# Altium footprint library LED.PcbLib: 41 footprints (part 1 of 3)
Each footprint in its own frame and in the unit in brackets; x right, y up, seen from the top. Pads: shape width x height; smd on the part's side, far side on the other; paste and mask are expansions set on the pad; w line width, h text height; cw(c..) or ccw(c..) is an arc to the next point about the centre after c.
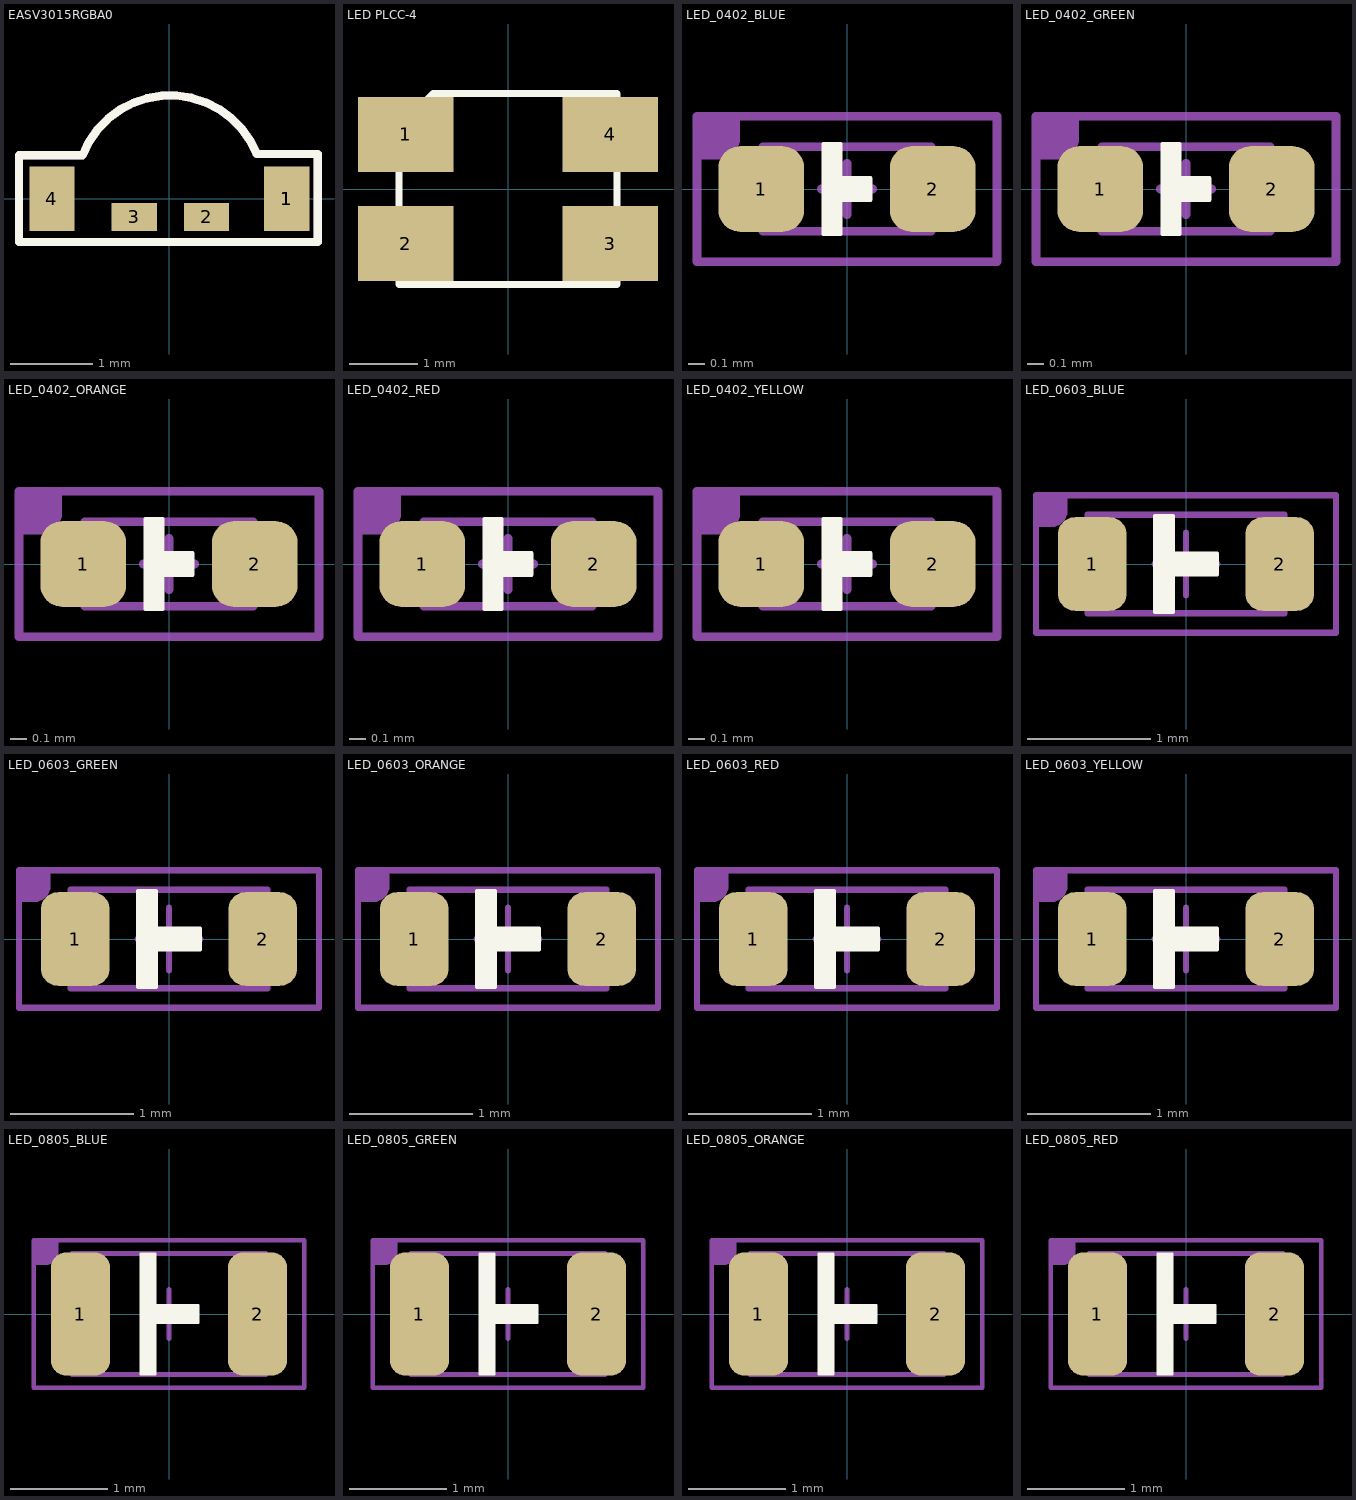
[diagram p0: the footprints below, top view; thin cyan lines are the x and y axes]

## EASV3015RGBA0 [mm]
pads (5):
  rect 0.55x0.78 smd: 1(1.425,0) 1(1.425,0) 4(-1.425,0)
  rect 0.55x0.34 smd: 2(0.45,-0.22) 3(-0.425,-0.22)
Top Overlay:
  lines w0.1: -1.825,-0.525 1.8,-0.525 1.8,0.544 1.059,0.544 ccw(c0.006,0.118) -1.054,0.527 -1.825,0.527 -1.825,-0.525
Mechanical 1:
  lines w0.1: -1.825,-0.525 1.8,-0.525 1.8,0.544 1.059,0.544 ccw(c0.006,0.118) -1.054,0.527 -1.825,0.527 -1.825,-0.525
  text ".Designator" at -1.5,-0.4 h0.7
3D body "EASV3015RGBA0.STEP": height 1, standoff 0, extent -1.5,-0.4 1.5,1.1

## LED PLCC-4 [mm]
pads (4):
  rect 1.4x1.1 smd: 1(-1.5,0.8) 2(-1.5,-0.8) 3(1.5,-0.8) 4(1.5,0.8)
Top Overlay:
  lines w0.1: -1.6,-1.4 -1.6,0.901 -1.101,1.4 -0.901,1.4 1.6,1.4 1.6,-1.4 -1.6,-1.4
3D body "Led_PLCC4-1.STEP": height 1.95, standoff 0, extent -1.752,-1.4 1.748,1.4

## LED_0402_BLUE [mil]
height 31.5
pads (2):
  rrect50% 20x20 smd: 1(-20,0) 2(20,0)
Top Overlay:
  region: -5.5,10.5 -1.5,10.5 -1.5,2.5 5.5,2.5 5.5,-2.5 -1.5,-2.5 -1.5,-10.5 -5.5,-10.5
  lines w1: -5.5,-10.5 -1.5,-10.5 -1.5,-2.5 5.5,-2.5 5.5,2.5 -1.5,2.5 -1.5,10.5 -5.5,10.5 -5.5,-10.5
Mechanical 13:
  lines w2: -6,0 6,0 ; 0,-6 0,6 ; -19.69,-9.84 -19.69,9.84 19.68,9.84 19.68,-9.84 -19.69,-9.84
Mechanical 14:
  region: -35,17 -25,17 -25,12 -25,11.01 -25.76,9.17 -27.17,7.76 -29.01,7 -30,7 -35,7
  lines w2: -35,-17 35,-17 35,17 -35,17 -35,-17
  text ".Designator" at -15,-10 h40
3D body "User Library-led_0402LED0402 blue_.STEP": height 17.72, standoff 0, extent -19.88,-9.84 19.88,9.85

## LED_0402_GREEN [mil]
height 31.5
pads (2):
  rrect50% 20x20 smd: 1(-20,0) 2(20,0)
Top Overlay:
  region: -5.5,10.5 -1.5,10.5 -1.5,2.5 5.5,2.5 5.5,-2.5 -1.5,-2.5 -1.5,-10.5 -5.5,-10.5
  lines w1: -5.5,-10.5 -1.5,-10.5 -1.5,-2.5 5.5,-2.5 5.5,2.5 -1.5,2.5 -1.5,10.5 -5.5,10.5 -5.5,-10.5
Mechanical 13:
  lines w2: -6,0 6,0 ; 0,-6 0,6 ; -19.69,-9.84 -19.69,9.84 19.68,9.84 19.68,-9.84 -19.69,-9.84
Mechanical 14:
  region: -35,17 -25,17 -25,12 -25,11.01 -25.76,9.17 -27.17,7.76 -29.01,7 -30,7 -35,7
  lines w2: -35,-17 -35,17 35,17 35,-17 -35,-17
  text ".Designator" at -15,-10 h40
3D body "User Library-led_0402LED0402 green_.STEP": height 17.72, standoff 0, extent -19.88,-9.84 19.88,9.85

## LED_0402_ORANGE [mil]
height 31.5
pads (2):
  rrect50% 20x20 smd: 1(-20,0) 2(20,0)
Top Overlay:
  region: -5.5,10.5 -1.5,10.5 -1.5,2.5 5.5,2.5 5.5,-2.5 -1.5,-2.5 -1.5,-10.5 -5.5,-10.5
  lines w1: -5.5,-10.5 -5.5,10.5 -1.5,10.5 -1.5,2.5 5.5,2.5 5.5,-2.5 -1.5,-2.5 -1.5,-10.5 -5.5,-10.5
Mechanical 13:
  lines w2: -6,0 6,0 ; 0,-6 0,6 ; -19.69,-9.84 19.68,-9.84 19.68,9.84 -19.69,9.84 -19.69,-9.84
Mechanical 14:
  region: -35,17 -25,17 -25,12 -25,11.01 -25.76,9.17 -27.17,7.76 -29.01,7 -30,7 -35,7
  lines w2: -35,-17 35,-17 35,17 -35,17 -35,-17
  text ".Designator" at -15,-10 h40
3D body "User Library-led_0402LED0402 orange_.STEP": height 17.72, standoff 0, extent -19.88,-9.84 19.88,9.85

## LED_0402_RED [mil]
height 31.5
pads (2):
  rrect50% 20x20 smd: 1(-20,0) 2(20,0)
Top Overlay:
  region: -5.5,10.5 -1.5,10.5 -1.5,2.5 5.5,2.5 5.5,-2.5 -1.5,-2.5 -1.5,-10.5 -5.5,-10.5
  lines w1: -5.5,-10.5 -1.5,-10.5 -1.5,-2.5 5.5,-2.5 5.5,2.5 -1.5,2.5 -1.5,10.5 -5.5,10.5 -5.5,-10.5
Mechanical 13:
  lines w2: -6,0 6,0 ; 0,-6 0,6 ; -19.69,-9.84 -19.69,9.84 19.68,9.84 19.68,-9.84 -19.69,-9.84
Mechanical 14:
  region: -35,17 -25,17 -25,12 -25,11.01 -25.76,9.17 -27.17,7.76 -29.01,7 -30,7 -35,7
  lines w2: -35,-17 -35,17 35,17 35,-17 -35,-17
  text ".Designator" at -15,-10 h40
3D body "User Library-led_0402LED0402 red_.STEP": height 17.72, standoff 0, extent -19.88,-9.84 19.89,9.85

## LED_0402_YELLOW [mil]
height 31.5
pads (2):
  rrect50% 20x20 smd: 1(-20,0) 2(20,0)
Top Overlay:
  region: -5.5,10.5 -1.5,10.5 -1.5,2.5 5.5,2.5 5.5,-2.5 -1.5,-2.5 -1.5,-10.5 -5.5,-10.5
  lines w1: -5.5,-10.5 -1.5,-10.5 -1.5,-2.5 5.5,-2.5 5.5,2.5 -1.5,2.5 -1.5,10.5 -5.5,10.5 -5.5,-10.5
Mechanical 13:
  lines w2: -6,0 6,0 ; 0,-6 0,6 ; -19.69,-9.84 -19.69,9.84 19.68,9.84 19.68,-9.84 -19.69,-9.84
Mechanical 14:
  region: -35,17 -25,17 -25,12 -25,11.01 -25.76,9.17 -27.17,7.76 -29.01,7 -30,7 -35,7
  lines w2: -35,-17 35,-17 35,17 -35,17 -35,-17
  text ".Designator" at -15,-10 h40
3D body "User Library-led_0402LED0402 yellow_.STEP": height 17.72, standoff 0, extent -19.88,-9.84 19.89,9.85

## LED_0603_BLUE [mil]
height 31.5
pads (2):
  rrect50% 22x30 smd: 1(-30,0) 2(30,0)
Top Overlay:
  region: -10,15.5 -4,15.5 -4,3.5 10,3.5 10,-3.5 -4,-3.5 -4,-15.5 -10,-15.5
  lines w1: -10,-15.5 -10,15.5 -4,15.5 -4,3.5 10,3.5 10,-3.5 -4,-3.5 -4,-15.5 -10,-15.5
Mechanical 13:
  lines w2: -10,0 10,0 ; 0,-10 0,10 ; -31.5,-15.75 -31.5,15.75 31.5,15.75 31.5,-15.75 -31.5,-15.75
Mechanical 14:
  region: -48,22 -38,22 -38,17 -38,16.01 -38.76,14.17 -40.17,12.76 -42.01,12 -43,12 -48,12
  lines w2: -48,-22 48,-22 48,22 -48,22 -48,-22
  text ".Designator" at -25,-15 h60
3D body "User Library-led_0603LED0603 blue.STEP": height 23.62, standoff 0, extent -31.89,-15.74 31.89,15.75

## LED_0603_GREEN [mil]
height 31.5
pads (2):
  rrect50% 22x30 smd: 1(-30,0) 2(30,0)
Top Overlay:
  region: -10,15.5 -4,15.5 -4,3.5 10,3.5 10,-3.5 -4,-3.5 -4,-15.5 -10,-15.5
  lines w1: -10,-15.5 -10,15.5 -4,15.5 -4,3.5 10,3.5 10,-3.5 -4,-3.5 -4,-15.5 -10,-15.5
Mechanical 13:
  lines w2: -10,0 10,0 ; 0,-10 0,10 ; -31.5,-15.75 -31.5,15.75 31.5,15.75 31.5,-15.75 -31.5,-15.75
Mechanical 14:
  region: -48,22 -38,22 -38,17 -38,16.01 -38.76,14.17 -40.17,12.76 -42.01,12 -43,12 -48,12
  lines w2: -48,-22 48,-22 48,22 -48,22 -48,-22
  text ".Designator" at -25,-15 h60
3D body "User Library-led_0603LED0603 green.STEP": height 23.62, standoff 0, extent -31.89,-15.74 31.89,15.75

## LED_0603_ORANGE [mil]
height 31.5
pads (2):
  rrect50% 22x30 smd: 1(-30,0) 2(30,0)
Top Overlay:
  region: -10,15.5 -4,15.5 -4,3.5 10,3.5 10,-3.5 -4,-3.5 -4,-15.5 -10,-15.5
  lines w1: -10,-15.5 -10,15.5 -4,15.5 -4,3.5 10,3.5 10,-3.5 -4,-3.5 -4,-15.5 -10,-15.5
Mechanical 13:
  lines w2: -10,0 10,0 ; 0,-10 0,10 ; -31.5,-15.75 31.5,-15.75 31.5,15.75 -31.5,15.75 -31.5,-15.75
Mechanical 14:
  region: -48,22 -38,22 -38,17 -38,16.01 -38.76,14.17 -40.17,12.76 -42.01,12 -43,12 -48,12
  lines w2: -48,-22 -48,22 48,22 48,-22 -48,-22
  text ".Designator" at -25,-15 h60
3D body "User Library-led_0603LED0603 orange_.STEP": height 23.62, standoff 0, extent -31.89,-15.74 31.89,15.75

## LED_0603_RED [mil]
height 31.5
pads (2):
  rrect50% 22x30 smd: 1(-30,0) 2(30,0)
Top Overlay:
  region: -10,15.5 -4,15.5 -4,3.5 10,3.5 10,-3.5 -4,-3.5 -4,-15.5 -10,-15.5
  lines w1: -10,-15.5 -4,-15.5 -4,-3.5 10,-3.5 10,3.5 -4,3.5 -4,15.5 -10,15.5 -10,-15.5
Mechanical 13:
  lines w2: -10,0 10,0 ; 0,-10 0,10 ; -31.5,-15.75 -31.5,15.75 31.5,15.75 31.5,-15.75 -31.5,-15.75
Mechanical 14:
  region: -48,22 -38,22 -38,17 -38,16.01 -38.76,14.17 -40.17,12.76 -42.01,12 -43,12 -48,12
  lines w2: -48,-22 48,-22 48,22 -48,22 -48,-22
  text ".Designator" at -25,-15 h60
3D body "User Library-led_0603LED0603 red.STEP": height 23.62, standoff 0, extent -31.89,-15.74 31.89,15.75

## LED_0603_YELLOW [mil]
height 31.5
pads (2):
  rrect50% 22x30 smd: 1(-30,0) 2(30,0)
Top Overlay:
  region: -10,15.5 -4,15.5 -4,3.5 10,3.5 10,-3.5 -4,-3.5 -4,-15.5 -10,-15.5
  lines w1: -10,-15.5 -4,-15.5 -4,-3.5 10,-3.5 10,3.5 -4,3.5 -4,15.5 -10,15.5 -10,-15.5
Mechanical 13:
  lines w2: -10,0 10,0 ; 0,-10 0,10 ; -31.5,-15.75 31.5,-15.75 31.5,15.75 -31.5,15.75 -31.5,-15.75
Mechanical 14:
  region: -48,22 -38,22 -38,17 -38,16.01 -38.76,14.17 -40.17,12.76 -42.01,12 -43,12 -48,12
  lines w2: -48,-22 48,-22 48,22 -48,22 -48,-22
  text ".Designator" at -25,-15 h60
3D body "User Library-led_0603LED0603 yellow_.STEP": height 23.62, standoff 0, extent -31.89,-15.74 31.89,15.75

## LED_0805_BLUE [mil]
height 47.24
pads (2):
  rrect50% 24x50 smd: 1(-36,0) 2(36,0)
Top Overlay:
  region: -11.5,24.5 -5.5,24.5 -5.5,3.5 12,3.5 12,-3.5 -5.5,-3.5 -5.5,-24.5 -11.5,-24.5
  lines w1: -11.5,-24.5 -11.5,24.5 -5.5,24.5 -5.5,3.5 12,3.5 12,-3.5 -5.5,-3.5 -5.5,-24.5 -11.5,-24.5
Mechanical 13:
  lines w2: -10,0 10,0 ; 0,-10 0,10 ; -39.37,-24.61 39.37,-24.61 39.37,24.61 -39.37,24.61 -39.37,-24.61
Mechanical 14:
  region: -55,30 -45,30 -45,25 -45,24.01 -45.76,22.17 -47.17,20.76 -49.01,20 -50,20 -55,20
  lines w2: -55,-30 -55,30 55,30 55,-30 -55,-30
  text ".Designator" at -31,-20 h80
3D body "User Library-led_0805LED0805_blue.STEP": height 43.31, standoff 0, extent -39.76,-24.6 39.77,24.61

## LED_0805_GREEN [mil]
height 47.24
pads (2):
  rrect50% 24x50 smd: 1(-36,0) 2(36,0)
Top Overlay:
  region: -11.5,24.5 -5.5,24.5 -5.5,3.5 12,3.5 12,-3.5 -5.5,-3.5 -5.5,-24.5 -11.5,-24.5
  lines w1: -11.5,-24.5 -5.5,-24.5 -5.5,-3.5 12,-3.5 12,3.5 -5.5,3.5 -5.5,24.5 -11.5,24.5 -11.5,-24.5
Mechanical 13:
  lines w2: -10,0 10,0 ; 0,-10 0,10 ; -39.37,-24.61 -39.37,24.61 39.37,24.61 39.37,-24.61 -39.37,-24.61
Mechanical 14:
  region: -55,30 -45,30 -45,25 -45,24.01 -45.76,22.17 -47.17,20.76 -49.01,20 -50,20 -55,20
  lines w2: -55,-30 55,-30 55,30 -55,30 -55,-30
  text ".Designator" at -31,-20 h80
3D body "User Library-led_0805LED0805_green.STEP": height 43.31, standoff 0, extent -39.76,-24.6 39.77,24.61

## LED_0805_ORANGE [mil]
height 47.24
pads (2):
  rrect50% 24x50 smd: 1(-36,0) 2(36,0)
Top Overlay:
  region: -11.5,24.5 -5.5,24.5 -5.5,3.5 12,3.5 12,-3.5 -5.5,-3.5 -5.5,-24.5 -11.5,-24.5
  lines w1: -11.5,-24.5 -11.5,24.5 -5.5,24.5 -5.5,3.5 12,3.5 12,-3.5 -5.5,-3.5 -5.5,-24.5 -11.5,-24.5
Mechanical 13:
  lines w2: -10,0 10,0 ; 0,-10 0,10 ; -39.37,-24.61 39.37,-24.61 39.37,24.61 -39.37,24.61 -39.37,-24.61
Mechanical 14:
  region: -55,30 -45,30 -45,25 -45,24.01 -45.76,22.17 -47.17,20.76 -49.01,20 -50,20 -55,20
  lines w2: -55,-30 -55,30 55,30 55,-30 -55,-30
  text ".Designator" at -31,-20 h80
3D body "User Library-led_0805LED0805_orange.STEP": height 43.31, standoff 0, extent -39.76,-24.6 39.77,24.61

## LED_0805_RED [mil]
height 47.24
pads (2):
  rrect50% 24x50 smd: 1(-36,0) 2(36,0)
Top Overlay:
  region: -11.5,24.5 -5.5,24.5 -5.5,3.5 12,3.5 12,-3.5 -5.5,-3.5 -5.5,-24.5 -11.5,-24.5
  lines w1: -11.5,-24.5 -11.5,24.5 -5.5,24.5 -5.5,3.5 12,3.5 12,-3.5 -5.5,-3.5 -5.5,-24.5 -11.5,-24.5
Mechanical 13:
  lines w2: -10,0 10,0 ; 0,-10 0,10 ; -39.37,-24.61 39.37,-24.61 39.37,24.61 -39.37,24.61 -39.37,-24.61
Mechanical 14:
  region: -55,30 -45,30 -45,25 -45,24.01 -45.76,22.17 -47.17,20.76 -49.01,20 -50,20 -55,20
  lines w2: -55,-30 -55,30 55,30 55,-30 -55,-30
  text ".Designator" at -31,-20 h80
3D body "User Library-led_0805LED0805_red.STEP": height 43.31, standoff 0, extent -39.76,-24.6 39.77,24.61